# Altium footprint library DIP.PcbLib: 4 footprints
Each footprint in its own frame and in the unit in brackets; x right, y up, seen from the top. Pads: shape width x height; smd on the part's side, far side on the other; paste and mask are expansions set on the pad; w line width, h text height; cw(c..) or ccw(c..) is an arc to the next point about the centre after c.
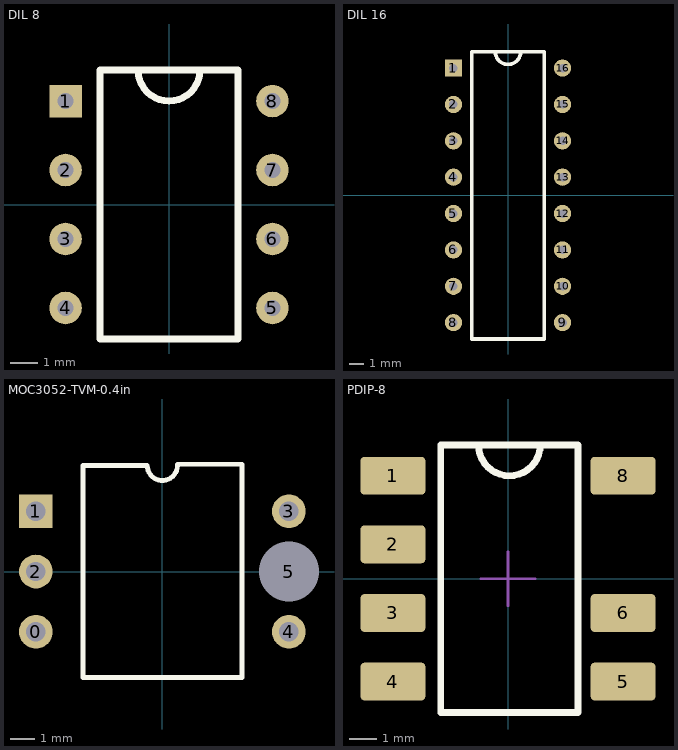
[diagram p0: the footprints below, top view; thin cyan lines are the x and y axes]

## DIL 8 [mm] "DIP 8"
height 5.1
pads (8):
  rect 1.2x1.2 hole 0.6: 1(-3.81,3.81)
  round 1.2 hole 0.6: 2(-3.81,1.27) 3(-3.81,-1.27) 4(-3.81,-3.81) 5(3.81,-3.81) 6(3.81,-1.27) 7(3.81,1.27) 8(3.81,3.81)
Top Overlay:
  lines w0.254: -1.143,4.953 ccw(c0,4.953) 1.143,4.953 ; -2.54,-4.953 -2.54,4.953 2.54,4.953 2.54,-4.953 -2.54,-4.953
3D body: height 4.57, standoff -3.81, extent -3.937,-4.955 3.883,4.955

## DIL 16 [mm] "DIP 16"
height 5.1
pads (16):
  rect 1.2x1.2 hole 0.6: 1(-3.81,8.89)
  round 1.2 hole 0.6: 2(-3.81,6.35) 3(-3.81,3.81) 4(-3.81,1.27) 5(-3.81,-1.27) 6(-3.81,-3.81) 7(-3.81,-6.35) 8(-3.81,-8.89) 9(3.81,-8.89) 10(3.81,-6.35) 11(3.81,-3.81) 12(3.81,-1.27) 13(3.81,1.27) 14(3.81,3.81) 15(3.81,6.35) 16(3.81,8.89)
Top Overlay:
  lines w0.254: -0.889,10.033 ccw(c0,10.033) 0.889,10.033 ; -2.54,-10.033 2.54,-10.033 2.54,10.033 -2.54,10.033 -2.54,-10.033
3D body: height 5.08, standoff -2.49, extent -3.935,-9.967 3.935,10.033

## MOC3052-TVM-0.4in [mm]
pads (6):
  round 1.4 hole 0.8: 0(-5.25,-2.5) 2(-5.25,0) 3(5.25,2.5) 4(5.25,-2.5)
  rect 1.4x1.4 hole 0.8: 1(-5.25,2.5)
  round 1.4 hole 2.5 unplated: 5(5.25,0)
Top Overlay:
  lines w0.2: 0.625,4.4 cw(c0,4.4) -0.625,4.4 -3.3,4.4 -3.3,-4.4 3.3,-4.4 3.3,4.45 0.625,4.45
3D body: height 5, standoff 0, extent -3.3,-4.45 3.3,4.45
3D body: height 5.1, standoff 0, extent -2.296,2.401 -1.3,3.399

## PDIP-8 [mm] "PDIP-8 with 7pin"
height 3.5
pads (7):
  rrect20% 2.4x1.4 smd: 1(-4.26,3.81) 2(-4.26,1.27) 3(-4.26,-1.27) 4(-4.26,-3.81) 5(4.26,-3.81) 6(4.26,-1.27) 8(4.26,3.81)
Top Overlay:
  lines w0.254: -1.093,4.953 ccw(c0.05,4.953) 1.193,4.953 ; -2.49,-4.953 2.59,-4.953 2.59,4.953 -2.49,4.953 -2.49,-4.953
Mechanical 15:
  lines w0.1: -1,0 1,0 ; 0,-1 0,1
3D body: height 3.63, standoff 0, extent -4.886,-4.742 4.766,4.762